# Altium footprint library PCB - LEADLESS - QFN - TI WQFN-10 2x2MM RUN0010A.PcbLib: 1 footprints
Each footprint in its own frame and in the unit in brackets; x right, y up, seen from the top. Pads: shape width x height; smd on the part's side, far side on the other; paste and mask are expansions set on the pad; w line width, h text height; cw(c..) or ccw(c..) is an arc to the next point about the centre after c.
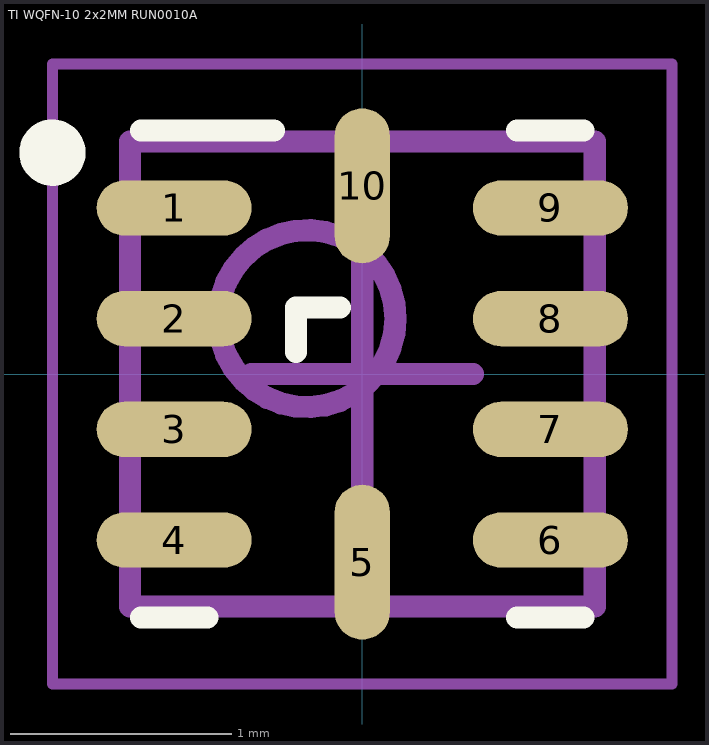
[diagram p0: the footprint, top view; thin cyan lines are the x and y axes]

## TI WQFN-10 2x2MM RUN0010A [mm] "WQFN, 10-Leads, Body 2.00x2.00mm, Pitch 0.50mm"
height 0.8
pads (10):
  oval 0.7x0.25 smd: 1(-0.85,0.75) 2(-0.85,0.25) 3(-0.85,-0.25) 4(-0.85,-0.75) 6(0.85,-0.75) 7(0.85,-0.25) 8(0.85,0.25) 9(0.85,0.75)
  oval 0.25x0.7 smd: 5(0,-0.85) 10(0,0.85)
Top Overlay:
  circle w0.15: c-1.4,1 r0.075
  lines w0.1: -1,-1.1 -0.7,-1.1 ; -1,1.1 -0.4,1.1 ; -0.3,0.1 -0.3,0.3 -0.1,0.3 ; 0.7,-1.1 1,-1.1 ; 0.7,1.1 1,1.1
Mechanical 13:
  circle w0.1: c-0.25,0.25 r0.4
  lines w0.1: -1.05,-1.05 -1.05,1.05 1.05,1.05 1.05,-1.05 -1.05,-1.05
Mechanical 15:
  lines w0.05: -1.4,-1.4 -1.4,1.4 1.4,1.4 1.4,-1.4 -1.4,-1.4
  lines w0.1: -0.5,0 0.5,0 ; 0,-0.5 0,0.5
3D body "TI WQFN-10 2x2MM RUN0010A.step": height 0.8, standoff 0, extent -1.06,-1.06 1.06,1.06